# Altium schematic symbol library CRCW0402220RFKEDC.SchLib: 1 symbol
Pins are listed as number, name and electrical type; pins without a type are passive.

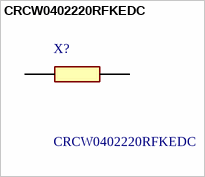
[diagram p0: symbol CRCW0402220RFKEDC]

## CRCW0402220RFKEDC
designator X?
Thick Film Resistors - SMD 1/16watt 220ohms 1% Commercial Use; Manufacturer_Name: Vishay; Geometry.Height: 0.35mm; Mouser Part Number: 71-CRCW0402220RFKEDC; Mouser Price/Stock: https://www.mouser.co.uk/ProductDetail/Vishay-Dale/CRCW0402220RFKEDC?qs=E3Y5ESvWgWMAZ9jx9FE2wg%3D%3D; Manufacturer_Part_Number: CRCW0402220RFKEDC; Datasheet Link: http://www.vishay.com/docs/28773/crcwce3.pdf
footprint RESC1005X35N
pins: 1, 2